# Altium footprint library KitArmM0.PcbLib: 27 footprints (part 2 of 2)
Each footprint in its own frame and in the unit in brackets; x right, y up, seen from the top. Pads: shape width x height; smd on the part's side, far side on the other; paste and mask are expansions set on the pad; w line width, h text height; cw(c..) or ccw(c..) is an arc to the next point about the centre after c.
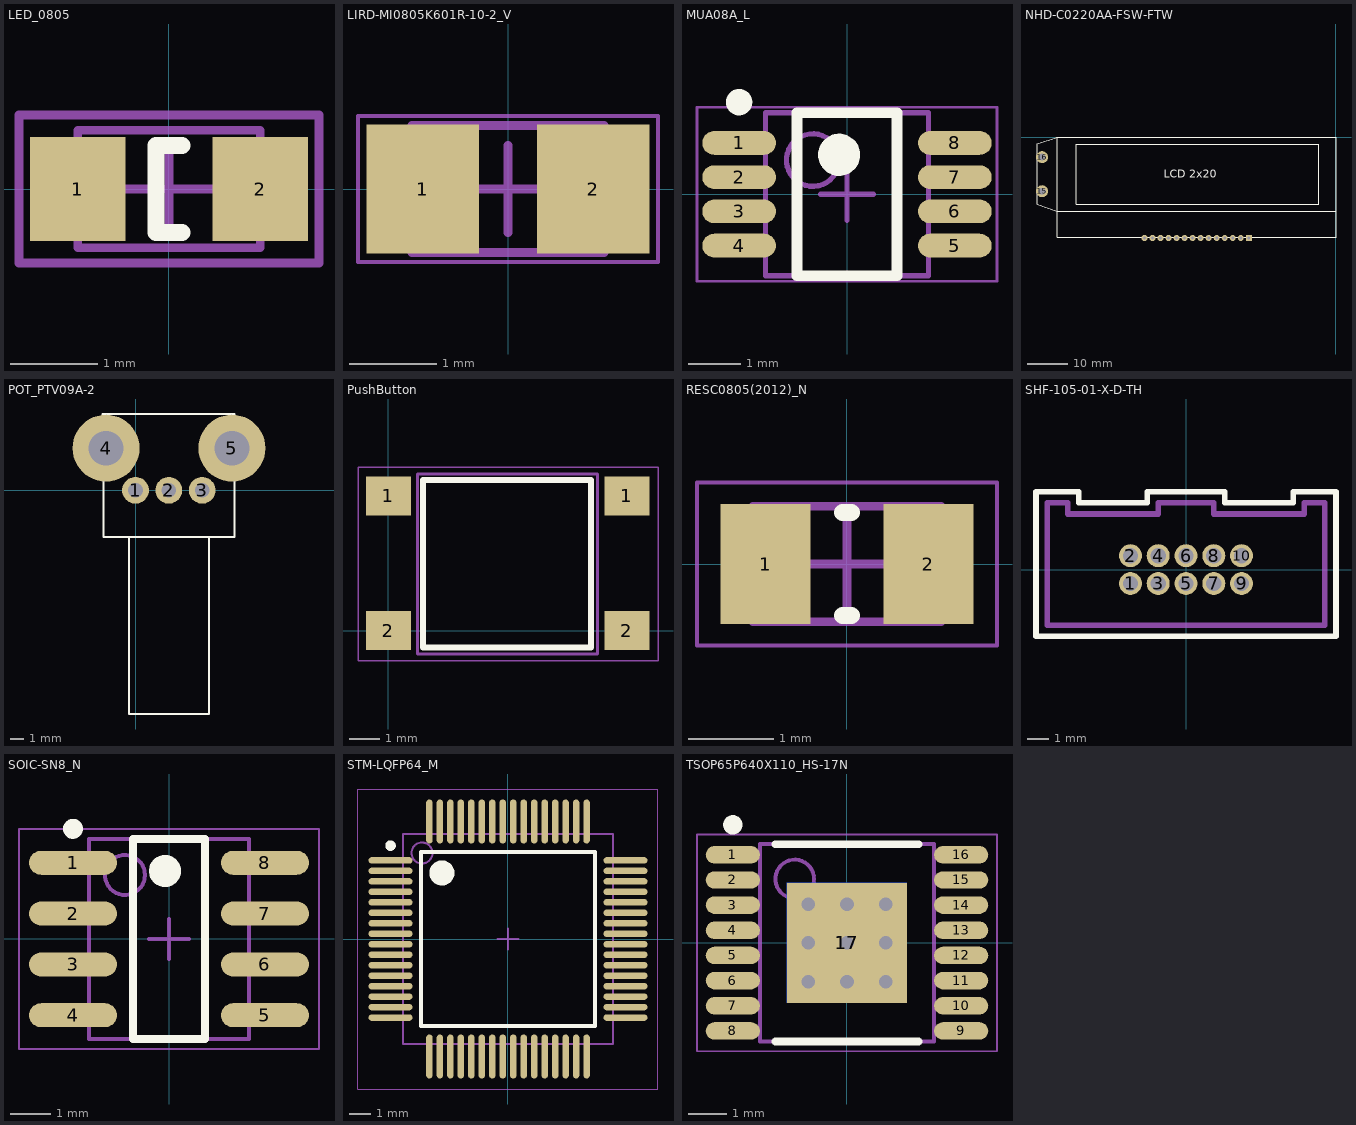
[diagram p1: the footprints below, top view; thin cyan lines are the x and y axes]

## LED_0805 [mm] "Chip LED, 2-Leads, Body 2.0x1.3mm, IPC Medium Density"
height 0.8
pads (2):
  rect 1.1x1.2 smd: 1(-1.05,0) 2(1.05,0)
Top Overlay:
  lines w0.2: 0.15,-0.5 -0.15,-0.5 -0.15,0.5 0.15,0.5
Mechanical 13:
  lines w0.1: -1.05,-0.675 -1.05,0.675 1.05,0.675 1.05,-0.675 -1.05,-0.675
Mechanical 15:
  lines w0.1: -0.5,0 0.5,0 ; 0,-0.5 0,0.5 ; -1.725,-0.85 -1.725,0.85 1.725,0.85 1.725,-0.85 -1.725,-0.85
3D body "WL-SMCW_0805_LED.stp": height 0.68, standoff -0.02, extent -1,-0.625 1,0.625

## LIRD-MI0805K601R-10-2_V [mm] "Chip Bead, 2-Leads, Body 2.2 x1.45 mm"
height 1.1
pads (2):
  rect 1.285x1.47 smd: 1(-0.973,0) 2(0.973,0)
Mechanical 13:
  lines w0.1: -1.1,-0.725 1.1,-0.725 1.1,0.725 -1.1,0.725 -1.1,-0.725
Mechanical 15:
  lines w0.05: -1.715,-0.835 -1.715,0.835 1.715,0.835 1.715,-0.835 -1.715,-0.835
  lines w0.1: -0.5,0 0.5,0 ; 0,-0.5 0,0.5
3D body "INDC2012X11L23.step": height 1.1, standoff 0, extent -1.1,-0.725 1.1,0.725

## MUA08A_L [mm] "TSOP, 8-Leads, Body 3x3mm, Pitch 0.65mm, IPC High Density"
height 1.09
pads (8):
  oval 1.4x0.45 smd: 1(-2.05,0.975) 2(-2.05,0.325) 3(-2.05,-0.325) 4(-2.05,-0.975) 5(2.05,-0.975) 6(2.05,-0.325) 7(2.05,0.325) 8(2.05,0.975)
Top Overlay:
  circle w0.4: c-0.15,0.75 r0.2
  circle w0.25: c-2.05,1.75 r0.125
  lines w0.2: -0.95,-1.55 -0.95,1.55 0.95,1.55 0.95,-1.55 -0.95,-1.55
Mechanical 13:
  circle w0.1: c-0.65,0.65 r0.5
  lines w0.1: -1.55,-1.55 1.55,-1.55 1.55,1.55 -1.55,1.55 -1.55,-1.55
Mechanical 15:
  lines w0.05: -2.85,-1.65 2.85,-1.65 2.85,1.65 -2.85,1.65 -2.85,-1.65
  lines w0.1: -0.5,0 0.5,0 ; 0,-0.5 0,0.5
3D body: height 1.09, standoff 0.06, extent -1.55,-1.55 1.55,1.55

## NHD-C0220AA-FSW-FTW [mm] "LCD Alphanumeric 2x20"
pads (16):
  rect 1.5x1.5 hole 0.7: 1(-21.75,-25.15)
  round 1.5 hole 0.7: 2(-23.75,-25.15) 3(-25.75,-25.15) 4(-27.75,-25.15) 5(-29.75,-25.15) 6(-31.75,-25.15) 7(-33.75,-25.15) 8(-35.75,-25.15) 9(-37.75,-25.15) 10(-39.75,-25.15) 11(-41.75,-25.15) 12(-43.75,-25.15) 13(-45.75,-25.15) 14(-47.75,-25.15)
  round 3 hole 1.7: 15(-73.3,-13.5) 16(-73.3,-5)
Top Overlay:
  lines w0.254: 0,-18.5 -69.5,-18.5 -74.5,-16.8 -74.5,-1.7 -69.5,0 ; 0,0 -69.5,0 ; 0,0.013 0,-25 -69.5,-25 -69.5,0 ; -64.75,-16.75 -4.25,-16.75 -4.25,-1.75 -64.75,-1.75 -64.75,-16.75
  text "LCD 2x20" at -42.9,-10.2 h2
3D body "NHD-C0220AA-FSW-FTW (converti).STEP": height 6.05, standoff -5.1, extent -74.5,-25.304 0,0

## POT_PTV09A-2 [mm]
pads (5):
  round 2 hole 1.1: 1(0,0) 2(2.489,0) 3(4.978,0)
  round 5 hole 2.6: 4(-2.2,3.149) 5(7.2,3.149)
Top Overlay:
  lines w0.152: -2.451,5.08 -2.451,5.7 ; -0.5,-3.5 -0.5,-16.7 5.5,-16.7 5.5,-3.5 ; -2.4,-3.5 7.4,-3.5 7.4,5.7 -2.4,5.7 -2.4,-3.5
3D body "ptv09a-2x20f-xxxx.stp": height 3.38, standoff -15.92, extent -2.744,-16.775 7.722,5.825
3D body: height 0.25, standoff 0, extent 5.156,3.429 5.41,3.683

## PushButton [mm]
pads (4):
  rect 1.5x1.3 smd: 1(0,4.496) 1(7.95,4.496) 2(0,0) 2(7.95,0)
Top Overlay:
  lines w0.2: 1.143,-0.545 1.143,5.029 6.756,5.029 6.756,-0.559 1.156,-0.559 1.143,-0.545
Mechanical 13:
  lines w0.1: 0.96,-0.768 6.96,-0.768 6.96,5.232 0.96,5.232 0.96,-0.768
Mechanical 15:
  lines w0.05: -1.016,-1 -1.016,5.45 8.984,5.45 8.984,-1 -1.016,-1
3D body "FSM6JSMATR--3DModel-STEP-56544PushButon v4.step": height 5.26, standoff 0, extent -0.613,-0.765 8.487,5.235

## RESC0805(2012)_N [mm] "Chip Resistor, Body 2.0x1.3mm, IPC Medium Density"
height 0.7
pads (2):
  rect 1.05x1.4 smd: 1(-0.95,0) 2(0.95,0)
Top Overlay:
  lines w0.2: -0.05,-0.6 0.05,-0.6 ; -0.05,0.6 0.05,0.6
Mechanical 13:
  lines w0.1: -1.1,-0.675 1.1,-0.675 1.1,0.675 -1.1,0.675 -1.1,-0.675
Mechanical 15:
  lines w0.05: -1.75,-0.95 1.75,-0.95 1.75,0.95 -1.75,0.95 -1.75,-0.95
  lines w0.1: -0.5,0 0.5,0 ; 0,-0.5 0,0.5
3D body: height 0.7, standoff 0, extent 0.68,-0.675 1.1,0.675
3D body: height 0.7, standoff 0, extent -1.1,-0.675 -0.68,0.675
3D body: height 0.7, standoff 0, extent -0.68,-0.675 0.68,0.675

## SHF-105-01-X-D-TH [mm]
pads (10):
  round 1.05 hole 0.7: 1(-2.54,-0.635) 2(-2.54,0.635) 3(-1.27,-0.635) 4(-1.27,0.635) 5(0,-0.635) 6(0,0.635) 7(1.27,-0.635) 8(1.27,0.635) 9(2.54,-0.635) 10(2.54,0.635)
Top Overlay:
  lines w0.254: -6.858,-3.048 6.858,-3.048 6.858,3.556 4.902,3.556 4.902,3.048 1.778,3.048 1.778,3.556 -1.778,3.556 -1.778,3.048 -4.902,3.048 -4.902,3.556 -6.858,3.556 -6.858,-3.048
Mechanical 1:
  lines w0.254: -6.35,-2.54 6.35,-2.54 6.35,3.048 5.41,3.048 5.41,2.54 1.27,2.54 1.27,3.048 -1.27,3.048 -1.27,2.54 -5.41,2.54 -5.41,3.048 -6.35,3.048 -6.35,-2.54
  text "J1" at -6.731,-4.318 h0.76
3D body "SHF-105-01-L-D-TH.stp": height 5.33, standoff -1.91, extent -6.35,-2.54 6.35,3.048

## SOIC-SN8_N [mm] "SOIC, 8-Leads, Body 4.9x3.9mm, Pitch 1.27mm, IPC Medium Density"
height 1.75
pads (8):
  oval 2.2x0.6 smd: 1(-2.4,1.905) 2(-2.4,0.635) 3(-2.4,-0.635) 4(-2.4,-1.905) 5(2.4,-1.905) 6(2.4,-0.635) 7(2.4,0.635) 8(2.4,1.905)
Top Overlay:
  circle w0.4: c-0.1,1.7 r0.2
  circle w0.25: c-2.4,2.755 r0.125
  lines w0.2: -0.9,-2.5 -0.9,2.5 0.9,2.5 0.9,-2.5 -0.9,-2.5
Mechanical 13:
  circle w0.1: c-1.1,1.6 r0.5
  lines w0.1: -2,-2.5 -2,2.5 2,2.5 2,-2.5 -2,-2.5
Mechanical 15:
  lines w0.05: -3.75,-2.75 -3.75,2.75 3.75,2.75 3.75,-2.75 -3.75,-2.75
  lines w0.1: -0.5,0 0.5,0 ; 0,-0.5 0,0.5
3D body: height 1.75, standoff 0.1, extent -2,-2.5 2,2.5

## STM-LQFP64_M [mm] "Thin QFP, 64-Leads, Body 10x10mm, Pitch 0.5mm, IPC Low Density"
height 1.6
pads (64):
  oval 2.1x0.3 smd: 1(-5.6,3.75) 2(-5.6,3.25) 3(-5.6,2.75) 4(-5.6,2.25) 5(-5.6,1.75) 6(-5.6,1.25) 7(-5.6,0.75) 8(-5.6,0.25) 9(-5.6,-0.25) 10(-5.6,-0.75) 11(-5.6,-1.25) 12(-5.6,-1.75) 13(-5.6,-2.25) 14(-5.6,-2.75) 15(-5.6,-3.25) 16(-5.6,-3.75) 33(5.6,-3.75) 34(5.6,-3.25) 35(5.6,-2.75) 36(5.6,-2.25) 37(5.6,-1.75) 38(5.6,-1.25) 39(5.6,-0.75) 40(5.6,-0.25) 41(5.6,0.25) 42(5.6,0.75) 43(5.6,1.25) 44(5.6,1.75) 45(5.6,2.25) 46(5.6,2.75) 47(5.6,3.25) 48(5.6,3.75)
  oval 0.3x2.1 smd: 17(-3.75,-5.6) 18(-3.25,-5.6) 19(-2.75,-5.6) 20(-2.25,-5.6) 21(-1.75,-5.6) 22(-1.25,-5.6) 23(-0.75,-5.6) 24(-0.25,-5.6) 25(0.25,-5.6) 26(0.75,-5.6) 27(1.25,-5.6) 28(1.75,-5.6) 29(2.25,-5.6) 30(2.75,-5.6) 31(3.25,-5.6) 32(3.75,-5.6) 49(3.75,5.6) 50(3.25,5.6) 51(2.75,5.6) 52(2.25,5.6) 53(1.75,5.6) 54(1.25,5.6) 55(0.75,5.6) 56(0.25,5.6) 57(-0.25,5.6) 58(-0.75,5.6) 59(-1.25,5.6) 60(-1.75,5.6) 61(-2.25,5.6) 62(-2.75,5.6) 63(-3.25,5.6) 64(-3.75,5.6)
Top Overlay:
  circle w0.25: c-5.6,4.45 r0.125
  circle w0.6: c-3.15,3.15 r0.3
  lines w0.2: -4.15,-4.15 -4.15,4.15 4.15,4.15 4.15,-4.15 -4.15,-4.15
Mechanical 13:
  circle w0.1: c-4.1,4.1 r0.5
  lines w0.1: -5,-5 -5,5 5,5 5,-5 -5,-5
Mechanical 15:
  lines w0.05: -7.15,-7.15 -7.15,7.15 7.15,7.15 7.15,-7.15 -7.15,-7.15
  lines w0.1: -0.5,0 0.5,0 ; 0,-0.5 0,0.5
3D body: height 1.6, standoff 0.05, extent -5,-5 5,5

## TSOP65P640X110_HS-17N [mm] "TSOP, 16-Leads, Body 5.00x4.40mm, Pitch 0.65mm, Thermal Pad 3.10x3.10mm, IPC Medium Density"
height 1.1
pads (18):
  oval 1.4x0.45 smd: 1(-2.95,2.275) 2(-2.95,1.625) 3(-2.95,0.975) 4(-2.95,0.325) 5(-2.95,-0.325) 6(-2.95,-0.975) 7(-2.95,-1.625) 8(-2.95,-2.275) 9(2.95,-2.275) 10(2.95,-1.625) 11(2.95,-0.975) 12(2.95,-0.325) 13(2.95,0.325) 14(2.95,0.975) 15(2.95,1.625) 16(2.95,2.275)
  rect 3.1x3.1 smd: 17(0,0)
  rect 3.1x3.1 smd far side: 17(0,0)
via 1,1 diameter 0.75 hole 0.35
via 1,0 diameter 0.75 hole 0.35
via 0,1 diameter 0.75 hole 0.35
via 0,0 diameter 0.75 hole 0.35
via -1,1 diameter 0.75 hole 0.35
via -1,0 diameter 0.75 hole 0.35
via 1,-1 diameter 0.75 hole 0.35
via 0,-1 diameter 0.75 hole 0.35
via -1,-1 diameter 0.75 hole 0.35
Top Overlay:
  circle w0.25: c-2.95,3.05 r0.125
  lines w0.2: -1.85,-2.55 1.85,-2.55 ; -1.85,2.55 1.85,2.55
Mechanical 13:
  circle w0.1: c-1.35,1.65 r0.5
  lines w0.1: -2.25,-2.55 2.25,-2.55 2.25,2.55 -2.25,2.55 -2.25,-2.55
Mechanical 15:
  lines w0.05: -3.875,-2.8 3.875,-2.8 3.875,2.8 -3.875,2.8 -3.875,-2.8
  lines w0.1: -0.5,0 0.5,0 ; 0,-0.5 0,0.5
3D body "TSOP65P640X110_HS-17N.step": height 1.1, standoff 0, extent -3.187,-2.55 3.187,2.55